# EAGLE library part SMF05C (library ON)
ON Semiconductor SMF05C 5-line transient voltage suppressor array
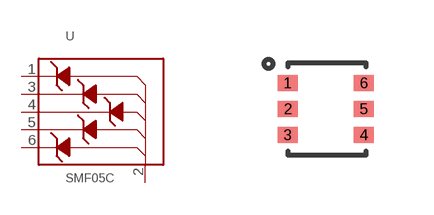
[diagram p0: symbol with the pads of SC-88; footprint SC-88]

Designator prefix -

## SMF05C  [SC-88]
1  CATODE1  pas
2  ANODE  pas
3  CATODE2  pas
4  CATODE3  pas
5  CATODE4  pas
6  CATODE5  pas

## Footprint SC-88 (pad centres in mm)
ON Semi SC-88 case 419B style 24
smd 0.5 x 0.399: 1 -1.016,0.665; 2 -1.016,0.015; 3 -1.016,-0.635; 4 0.884,-0.635; 5 0.884,0.015; 6 0.884,0.665